# Altium schematic symbol library SCH - POWER - MODULE - GAPTEC 1S4E_S1U.SCHLIB: 1 symbol
Pins are listed as number, name and electrical type; pins without a type are passive.

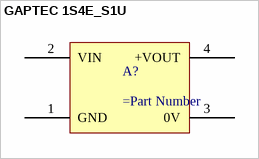
[diagram p0: symbol GAPTEC 1S4E_S1U]

## GAPTEC 1S4E_S1U
designator A?
pins: 1 GND, 2 VIN, 3 0V, 4 +VOUT